# Altium footprint library IC.PcbLib: 67 footprints (part 5 of 5)
Each footprint in its own frame and in the unit in brackets; x right, y up, seen from the top. Pads: shape width x height; smd on the part's side, far side on the other; paste and mask are expansions set on the pad; w line width, h text height; cw(c..) or ccw(c..) is an arc to the next point about the centre after c.
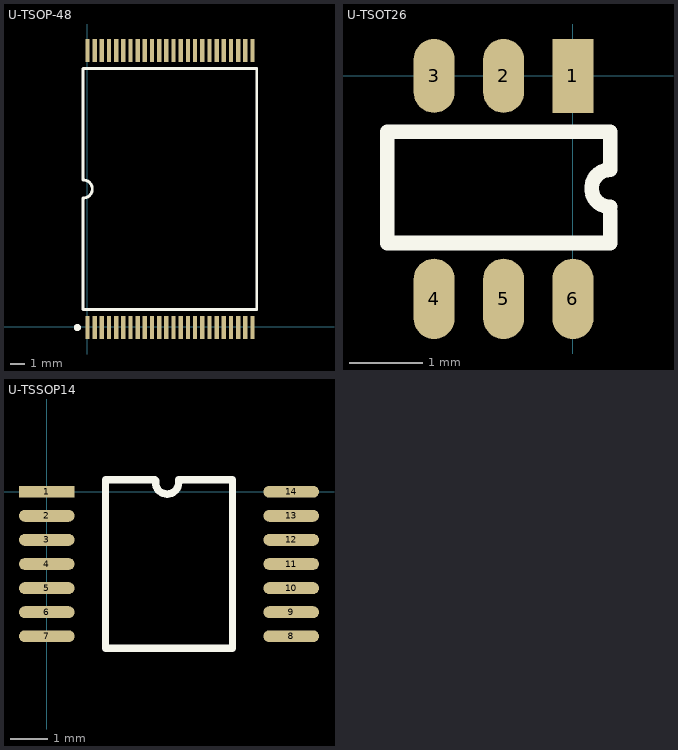
[diagram p4: the footprints below, top view; thin cyan lines are the x and y axes]

## U-TSOP-48 [mm] "Shrink Small Outline, Plastic, Thin; 48 Leads; Body Width 18.4 mm; Pitch 0.5 mm"
height 1.2
pads (48):
  rect 0.3x1.6 smd: 1(0,-0.051) 2(0.5,-0.051) 3(1,-0.051) 4(1.5,-0.051) 5(2,-0.051) 6(2.5,-0.051) 7(3,-0.051) 8(3.5,-0.051) 9(4,-0.051) 10(4.5,-0.051) 11(5,-0.051) 12(5.5,-0.051) 13(6,-0.051) 14(6.5,-0.051) 15(7,-0.051) 16(7.5,-0.051) 17(8,-0.051) 18(8.5,-0.051) 19(9,-0.051) 20(9.5,-0.051) 21(10,-0.051) 22(10.5,-0.051) 23(11,-0.051) 24(11.5,-0.051) 25(11.5,19.251) 26(11,19.251) 27(10.5,19.251) 28(10,19.251) 29(9.5,19.251) 30(9,19.251) 31(8.5,19.251) 32(8,19.251) 33(7.5,19.251) 34(7,19.251) 35(6.5,19.251) 36(6,19.251) 37(5.5,19.251) 38(5,19.251) 39(4.5,19.251) 40(4,19.251) 41(3.5,19.251) 42(3,19.251) 43(2.5,19.251) 44(2,19.251) 45(1.5,19.251) 46(1,19.251) 47(0.5,19.251) 48(0,19.251)
Top Overlay:
  circle w0.25: c-0.7,-0.051 r0.125
  lines w0.2: -0.3,1.2 -0.3,8.965 ccw(c-0.3,9.6) -0.3,10.235 -0.3,18 11.8,18 11.8,1.2 -0.3,1.2
3D body "TSOP-48.STEP": height 1.2, standoff 0, extent -0.295,-0.509 11.805,19.691

## U-TSOT26 [mm]
pads (6):
  rect 0.56x1.01 smd: 1(0,0)
  oval 0.56x1.01 smd: 2(-0.95,0) 3(-1.9,0)
  oval 0.56x1.1 smd: 4(-1.9,-3.05) 5(-0.95,-3.05) 6(0,-3.05)
Top Overlay:
  lines w0.2: 0.508,-1.854 0.508,-2.286 -2.54,-2.286 -2.54,-0.762 0.508,-0.762 0.508,-1.284 ccw(c0.508,-1.538) 0.508,-1.792
3D body: height 0.25, standoff 0, extent -1.194,-3.277 -0.711,-2.21
3D body: height 0.25, standoff 0, extent -0.229,-3.302 0.254,-2.235
3D body: height 0.25, standoff 0, extent -2.134,-3.277 -1.651,-2.21
3D body: height 0.25, standoff 0, extent -0.241,-0.813 0.241,0.254
3D body: height 0.25, standoff 0, extent -1.168,-0.762 -0.686,0.305
3D body: height 1.5, standoff 0.1, extent -2.515,-2.261 0.533,-0.737
3D body: height 0.25, standoff 0, extent -2.134,-0.838 -1.651,0.229

## U-TSSOP14 [mm]
pads (14):
  rect 1.5x0.32 smd: 1(0,0)
  oval 1.5x0.32 smd: 2(0,-0.65) 3(0,-1.3) 4(0,-1.95) 5(0,-2.6) 6(0,-3.25) 7(0,-3.9) 8(6.6,-3.9) 9(6.6,-3.25) 10(6.6,-2.6) 11(6.6,-1.95) 12(6.6,-1.3) 13(6.6,-0.65) 14(6.6,0)
Top Overlay:
  lines w0.2: 3.559,0.296 cw(c3.25,0.25) 2.941,0.294 2.91,0.325 1.585,0.325 1.585,-4.225 5.015,-4.225 5.015,0.325 3.559,0.325
3D body: height 0.25, standoff 0, extent 5.5,-0.15 6.6,0.15
3D body: height 0.25, standoff 0, extent 5.5,-0.8 6.6,-0.5
3D body: height 0.25, standoff 0, extent 5.5,-1.45 6.6,-1.15
3D body: height 0.25, standoff 0, extent 5.5,-2.1 6.6,-1.8
3D body: height 0.25, standoff 0, extent 5.5,-2.75 6.6,-2.45
3D body: height 0.25, standoff 0, extent 5.5,-3.4 6.6,-3.1
3D body: height 0.25, standoff 0, extent 5.5,-4.05 6.6,-3.75
3D body: height 0.25, standoff 0, extent 0,-4.05 1.1,-3.75
3D body: height 0.25, standoff 0, extent 0,-3.4 1.1,-3.1
3D body: height 0.25, standoff 0, extent 0,-2.75 1.1,-2.45
3D body: height 0.25, standoff 0, extent 0,-2.1 1.1,-1.8
3D body: height 0.25, standoff 0, extent 0,-1.45 1.1,-1.15
3D body: height 0.25, standoff 0, extent 0,-0.8 1.1,-0.5
3D body: height 0.25, standoff 0, extent 0,-0.15 1.1,0.15
3D body: height 1.5, standoff 0.1, extent 1,-4.3 5.6,0.3